# Altium footprint library PcbLib1.PcbLib: 26 footprints (part 2 of 2)
Each footprint in its own frame and in the unit in brackets; x right, y up, seen from the top. Pads: shape width x height; smd on the part's side, far side on the other; paste and mask are expansions set on the pad; w line width, h text height; cw(c..) or ccw(c..) is an arc to the next point about the centre after c.
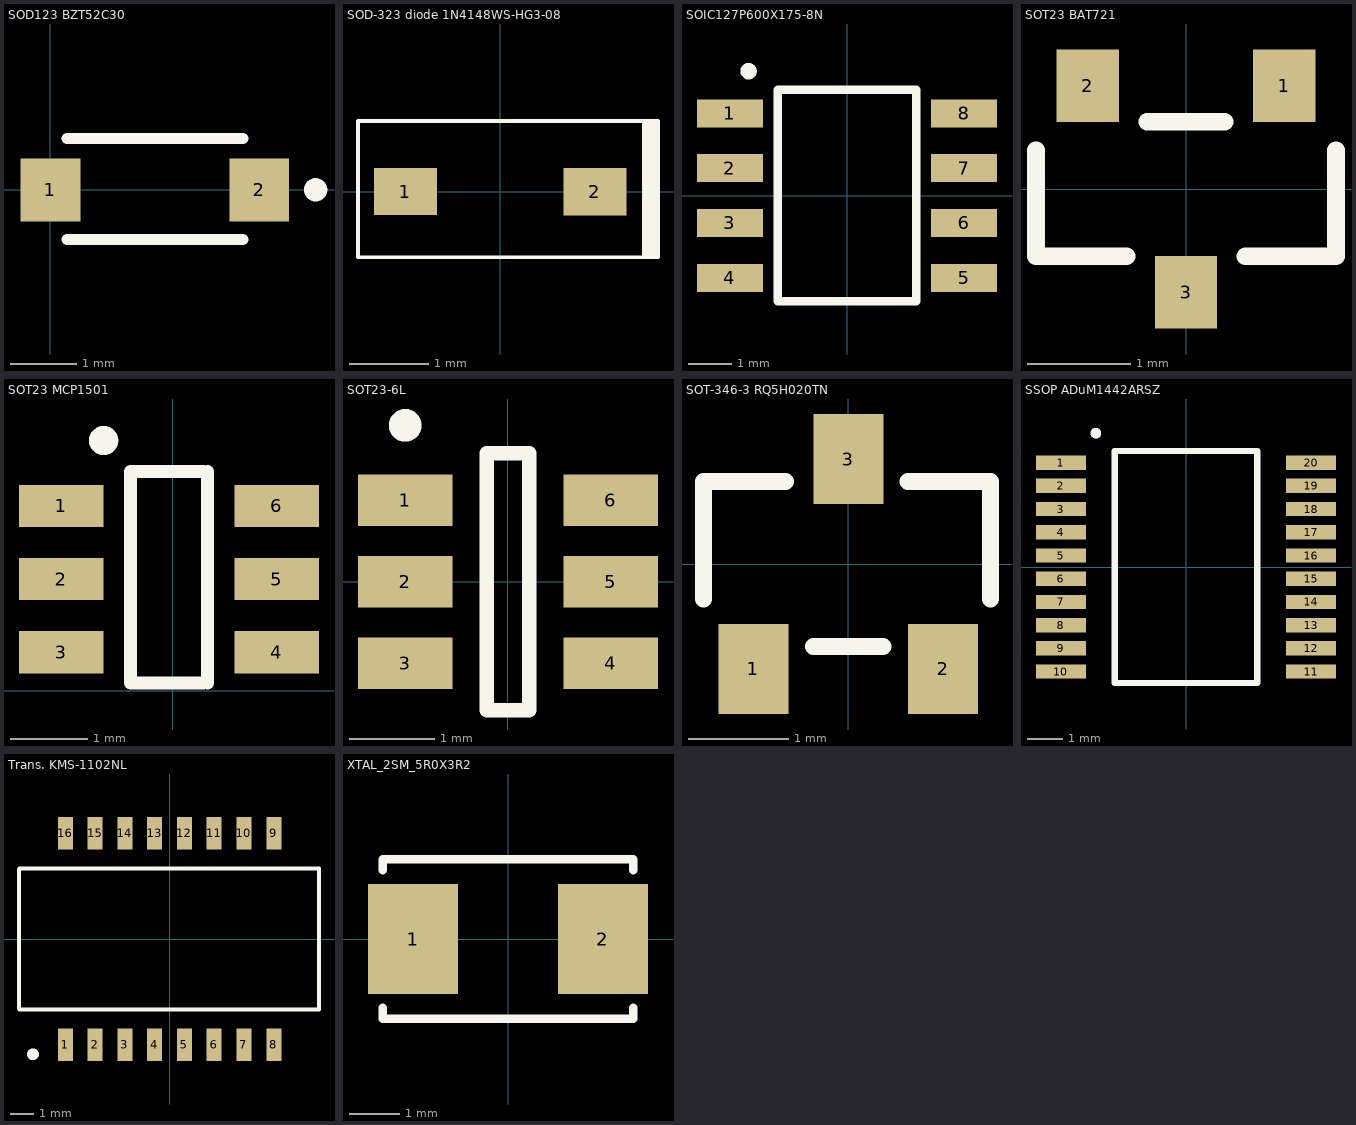
[diagram p1: the footprints below, top view; thin cyan lines are the x and y axes]

## SOD123 BZT52C30 [mm]
pads (2):
  rect 0.9x0.95 smd: 1(0,0) 2(3.15,0)
Top Overlay:
  circle w0.25: c4,0 r0.051
  lines w0.17: 0.25,-0.75 2.9,-0.75 ; 0.25,0.775 2.9,0.775
3D body: height 1.05, standoff 0, extent 0.25,-0.775 2.9,0.775

## SOD-323 diode 1N4148WS-HG3-08 [mm] "1N4148WS-HG3-08"
pads (2):
  rect 0.8x0.6 smd: 1(-1.2,0) 2(1.2,0)
Top Overlay:
  rectangle: 1.799,-0.832 1.988,0.897
  lines w0.05: -1.8,-0.832 -1.8,0.893 2,0.893 2,-0.832 -1.8,-0.832
3D body: height 13, standoff 0, extent 0.348,0.683 0.348,0.683
3D body: height 13, standoff 0, extent 0.348,0.683 0.348,0.683
3D body: height 13, standoff 0, extent -0.277,-0.317 -0.277,-0.317
3D body: height 1.15, standoff 0, extent -0.975,-0.725 0.975,0.775

## SOIC127P600X175-8N [mm]
pads (8):
  rect 1.525x0.65 smd: 1(-2.712,1.905) 2(-2.712,0.635) 3(-2.712,-0.635) 4(-2.712,-1.905) 5(2.712,-1.905) 6(2.712,-0.635) 7(2.712,0.635) 8(2.712,1.905)
Top Overlay:
  circle w0.2: c-2.28,2.88 r0.091
  lines w0.2: -1.6,-2.45 1.6,-2.45 1.6,2.45 -1.6,2.45 -1.6,-2.45
3D body "MAX31855KASA+T.stp": height 1.75, standoff 0, extent -3,-2.45 3,2.45

## SOT23 BAT721 [mm]
pads (3):
  rect 0.6x0.7 smd: 1(0.95,1) 2(-0.95,1) 3(0,-1)
Top Overlay:
  lines w0.17: -1.45,0.375 -1.45,-0.65 -0.575,-0.65 ; -0.375,0.65 0.375,0.65 ; 0.575,-0.65 1.45,-0.65 1.45,0.375
3D body: height 1, standoff 0, extent -1.45,-0.65 1.45,0.65

## SOT23 MCP1501 [mm]
pads (6):
  rect 1.1x0.55 smd: 1(-1.45,2.4) 2(-1.45,1.45) 3(-1.45,0.5) 4(1.35,0.5) 5(1.35,1.45) 6(1.35,2.4)
Top Overlay:
  circle w0.2: c-0.9,3.25 r0.091
  lines w0.17: 0.4,0.1 0.35,0.1 0.125,0.1 -0.325,0.1 -0.55,0.1 -0.55,2.85 0.4,2.85 ; 0.45,0.1 0.45,0.787 0.45,2.163 0.45,2.85

## SOT23-6L [mm]
height 1.25
pads (6):
  rect 1.1x0.6 smd: 1(-1.2,0.95) 2(-1.2,0) 3(-1.2,-0.95) 4(1.2,-0.95) 5(1.2,0) 6(1.2,0.95)
Top Overlay:
  circle w0.2: c-1.2,1.825 r0.091
  lines w0.17: -0.25,-1.5 0.25,-1.5 0.25,1.5 -0.25,1.5 -0.25,-1.5
3D body: height 1.25, standoff 0.05, extent -0.865,-1.515 0.865,1.515

## SOT-346-3 RQ5H020TN [mm]
pads (3):
  rect 0.7x0.9 smd: 1(-0.95,-1.05) 2(0.95,-1.05) 3(0,1.05)
Top Overlay:
  lines w0.17: -1.45,-0.35 -1.45,0.825 -0.625,0.825 ; -0.35,-0.825 0.35,-0.825 ; 0.6,0.825 1.425,0.825 1.425,-0.35
3D body: height 1, standoff 0, extent -1.45,-0.825 1.45,0.825

## SSOP ADuM1442ARSZ [mm]
pads (20):
  rect 1.4x0.4 smd: 1(-3.5,2.925) 2(-3.5,2.275) 3(-3.5,1.625) 4(-3.5,0.975) 5(-3.5,0.325) 6(-3.5,-0.325) 7(-3.5,-0.975) 8(-3.5,-1.625) 9(-3.5,-2.275) 10(-3.5,-2.925) 11(3.5,-2.925) 12(3.5,-2.275) 13(3.5,-1.625) 14(3.5,-0.975) 15(3.5,-0.325) 16(3.5,0.325) 17(3.5,0.975) 18(3.5,1.625) 19(3.5,2.275) 20(3.5,2.925)
Top Overlay:
  circle w0.2: c-2.525,3.75 r0.05
  lines w0.17: -1.995,-3.25 -1.995,3.25 0.162,3.25 1.995,3.25 1.995,-3.25 -1.995,-3.25
3D body: height 2, standoff 0, extent -2.65,-3.575 2.65,3.625

## Trans. KMS-1102NL [mm]
height 1
pads (16):
  rect 0.64x1.4 smd: 1(-4.445,-4.51) 2(-3.175,-4.51) 3(-1.905,-4.51) 4(-0.635,-4.51) 5(0.635,-4.51) 6(1.905,-4.51) 7(3.175,-4.51) 8(4.445,-4.51) 9(4.445,4.51) 10(3.175,4.51) 11(1.905,4.51) 12(0.635,4.51) 13(-0.635,4.51) 14(-1.905,4.51) 15(-3.175,4.51) 16(-4.445,4.51)
Top Overlay:
  circle w0.25: c-5.83,-4.92 r0.125
  lines w0.17: -6.425,-2.975 -6.4,-3 6.375,-3 6.375,3 -6.4,3 -6.425,2.975 -6.425,-2.975
3D body: height 6, standoff 0, extent -6.4,-3 6.4,3

## XTAL_2SM_5R0X3R2 [mm] "CRYSTAL 25M Hz  30F SMD 2 pads"
height 1.3
pads (2):
  rect 1.8x2.2 smd: 1(-1.9,0) 2(1.9,0)
Top Overlay:
  lines w0.17: -2.5,-1.375 -2.5,-1.6 2.5,-1.6 2.5,-1.544 2.5,-1.431 2.5,-1.375 ; -2.5,1.375 -2.5,1.6 2.5,1.6 2.5,1.544 2.5,1.431 2.5,1.375
3D body: height 1.3, standoff 0, extent -2.5,-1.6 2.5,1.6